# Altium integrated library Renesas Diode.IntLib: 1609 symbols (part 30 of 31)
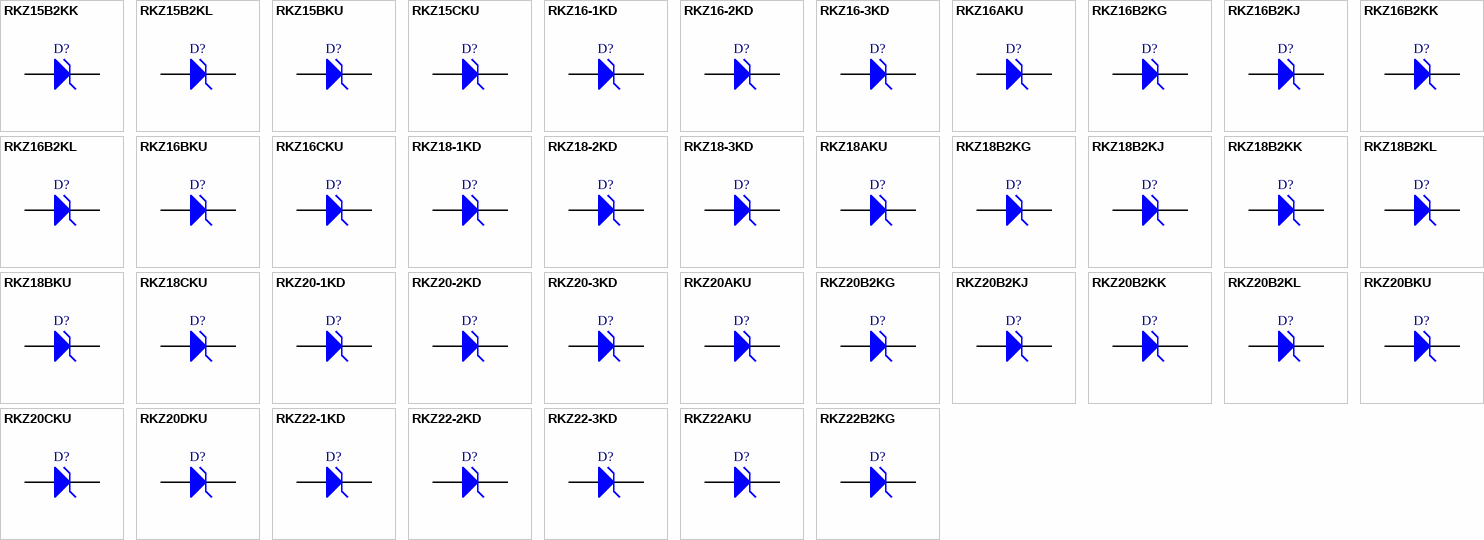
[diagram p74: symbols RKZ15B2KK to RKZ22B2KG]

## RKZ16B2KJ
designator D?
Silicon Planar Zener Diode for Surge Absorption and Stabilizer; Published: 12-Feb-2010; DatasheetVersion: Rev.1.00, Sep-2007; PackageVersion: Oct-2006; PackageReference: PWSF0002ZA-A; Publisher: Altium Limited; PackageDescription: 2-Pin Plastic Small Outline Diode, Flat Leads, Body 0.8 x 1.2 mm (UFP); Code_JEITA: SC-79; ComponentLink1Description: Manufacturer Link; ComponentLink1URL: http://sg.renesas.com/fmwk.jsp?cnt=diode_landing.jsp&fp=/products/discrete/diodes/; ComponentLink2Description: Datasheet; ComponentLink2URL: http://documentation.renesas.com/eng/products/diode/rej03g1588_rkz_kjds.pdf; ComponentLink3Description: Packaging Specification; ComponentLink3URL: http://sg.renesas.com/media/products/common_info/package/pdf/diode/code/pwsf0002za_a.pdf
footprint PWSF0002ZA-A (SOD, 2-Flat Leads, Body 0.8x1.2x0.7mm, Renesas Recommended)
signal-integrity model RKZ16B2KJ
pins: 1 K, 2 A

## RKZ16B2KK
designator D?
Silicon Planar Zener Diode for Surge Absorption and Stabilizer; Published: 12-Feb-2010; DatasheetVersion: Rev.1.00, Mar-2007; PackageVersion: Oct-2006; PackageReference: PUSF0002ZB-A; Publisher: Altium Limited; PackageDescription: 2-Pin Plastic Small Outline Diode, Flat Leads, Body 0.6 x 1.0 mm (SFP); ComponentLink1Description: Manufacturer Link; ComponentLink1URL: http://sg.renesas.com/fmwk.jsp?cnt=diode_landing.jsp&fp=/products/discrete/diodes/; ComponentLink2Description: Datasheet; ComponentLink2URL: http://documentation.renesas.com/eng/products/diode/rej03g1518_rkz_kkds.pdf; ComponentLink3Description: Packaging Specification; ComponentLink3URL: http://sg.renesas.com/media/products/common_info/package/pdf/diode/code/pusf0002zb_a.pdf
footprint PUSF0002ZB-A (SOD, 2-Flat Leads, Body 0.6x1.0x0.55mm, Renesas Recommended)
signal-integrity model RKZ16B2KK
pins: 1 K, 2 A

## RKZ16B2KL
designator D?
Silicon Planar Zener Diode for Surge Absorption and Stabilizer; Published: 12-Feb-2010; DatasheetVersion: Rev.1.00, May-2007; PackageVersion: Oct-2006; PackageReference: PXSF0002ZA-A; Publisher: Altium Limited; PackageDescription: 2-Pin Plastic Small Outline Diode, Flat Leads, Body 0.6 x 0.8 mm (EFP); ComponentLink1Description: Manufacturer Link; ComponentLink1URL: http://sg.renesas.com/fmwk.jsp?cnt=diode_landing.jsp&fp=/products/discrete/diodes/; ComponentLink2Description: Datasheet; ComponentLink2URL: http://documentation.renesas.com/eng/products/diode/rej03g1519_rkz_klds.pdf; ComponentLink3Description: Packaging Specification; ComponentLink3URL: http://sg.renesas.com/media/products/common_info/package/pdf/diode/code/pxsf0002za_a.pdf
footprint PXSF0002ZA-A (SOD, 2-Flat Leads, Body 0.6x0.8x0.5mm, Renesas Recommended)
signal-integrity model RKZ16B2KL
pins: 1 K, 2 A

## RKZ16BKU
designator D?
Silicon Planar Zener Diode for Stabilized Power Supply; Published: 12-Feb-2010; DatasheetVersion: Rev.1.00, Jul-2009; PackageVersion: Jul-2009; PackageReference: PUSF0002ZD-A; Publisher: Altium Limited; PackageDescription: 2-Pin Plastic Small Outline Diode, Flat Leads, Body 1.3 x 1.9 mm (TURP-FM); ComponentLink1Description: Manufacturer Link; ComponentLink1URL: http://sg.renesas.com/fmwk.jsp?cnt=diode_landing.jsp&fp=/products/discrete/diodes/; ComponentLink2Description: Datasheet; ComponentLink2URL: http://documentation.renesas.com/eng/products/diode/rej03g1771_rkz_kuds.pdf; ComponentLink3Description: Packaging Specification; ComponentLink3URL: http://sg.renesas.com/media/products/common_info/package/pdf/diode/code/pusf0002zd_a.pdf
footprint PUSF0002ZD-A (SOD, 2-Flat Leads, Body 1.3x1.9x0.65mm, Renesas Recommended)
signal-integrity model RKZ16BKU
pins: 1 K, 2 A

## RKZ16CKU
designator D?
Silicon Planar Zener Diode for Stabilized Power Supply; Published: 12-Feb-2010; DatasheetVersion: Rev.1.00, Jul-2009; PackageVersion: Jul-2009; PackageReference: PUSF0002ZD-A; Publisher: Altium Limited; PackageDescription: 2-Pin Plastic Small Outline Diode, Flat Leads, Body 1.3 x 1.9 mm (TURP-FM); ComponentLink1Description: Manufacturer Link; ComponentLink1URL: http://sg.renesas.com/fmwk.jsp?cnt=diode_landing.jsp&fp=/products/discrete/diodes/; ComponentLink2Description: Datasheet; ComponentLink2URL: http://documentation.renesas.com/eng/products/diode/rej03g1771_rkz_kuds.pdf; ComponentLink3Description: Packaging Specification; ComponentLink3URL: http://sg.renesas.com/media/products/common_info/package/pdf/diode/code/pusf0002zd_a.pdf
footprint PUSF0002ZD-A (SOD, 2-Flat Leads, Body 1.3x1.9x0.65mm, Renesas Recommended)
signal-integrity model RKZ16CKU
pins: 1 K, 2 A

## RKZ18-1KD
designator D?
Silicon Planar Zener Diode for Stabilized Power Supply; Published: 12-Feb-2010; DatasheetVersion: Rev.2.00, May-2008; PackageVersion: Aug-2005; PackageReference: GLZZ0002ZA-A; Publisher: Altium Limited; PackageDescription: Metal Electrode Face (MELF) Diode; Body 3.5 x 1.35 mm (LxDia); ComponentLink1Description: Manufacturer Link; ComponentLink1URL: http://sg.renesas.com/fmwk.jsp?cnt=diode_landing.jsp&fp=/products/discrete/diodes/; ComponentLink2Description: Datasheet; ComponentLink2URL: http://documentation.renesas.com/eng/products/diode/rej03g1264_rkz_kd.pdf; ComponentLink3Description: Packaging Specification; ComponentLink3URL: http://sg.renesas.com/media/products/common_info/package/pdf/diode/code/glzz0002za_a.pdf
footprint GLZZ0002ZA-A (Metal Electrode Face (MELF) Diode; Body 3.5 x 1.35 mm (LxDia))
signal-integrity model RKZ18-1KD
pins: 1 K, 2 A

## RKZ18-2KD
designator D?
Silicon Planar Zener Diode for Stabilized Power Supply; Published: 12-Feb-2010; DatasheetVersion: Rev.2.00, May-2008; PackageVersion: Aug-2005; PackageReference: GLZZ0002ZA-A; Publisher: Altium Limited; PackageDescription: Metal Electrode Face (MELF) Diode; Body 3.5 x 1.35 mm (LxDia); ComponentLink1Description: Manufacturer Link; ComponentLink1URL: http://sg.renesas.com/fmwk.jsp?cnt=diode_landing.jsp&fp=/products/discrete/diodes/; ComponentLink2Description: Datasheet; ComponentLink2URL: http://documentation.renesas.com/eng/products/diode/rej03g1264_rkz_kd.pdf; ComponentLink3Description: Packaging Specification; ComponentLink3URL: http://sg.renesas.com/media/products/common_info/package/pdf/diode/code/glzz0002za_a.pdf
footprint GLZZ0002ZA-A (Metal Electrode Face (MELF) Diode; Body 3.5 x 1.35 mm (LxDia))
signal-integrity model RKZ18-2KD
pins: 1 K, 2 A

## RKZ18-3KD
designator D?
Silicon Planar Zener Diode for Stabilized Power Supply; Published: 12-Feb-2010; DatasheetVersion: Rev.2.00, May-2008; PackageVersion: Aug-2005; PackageReference: GLZZ0002ZA-A; Publisher: Altium Limited; PackageDescription: Metal Electrode Face (MELF) Diode; Body 3.5 x 1.35 mm (LxDia); ComponentLink1Description: Manufacturer Link; ComponentLink1URL: http://sg.renesas.com/fmwk.jsp?cnt=diode_landing.jsp&fp=/products/discrete/diodes/; ComponentLink2Description: Datasheet; ComponentLink2URL: http://documentation.renesas.com/eng/products/diode/rej03g1264_rkz_kd.pdf; ComponentLink3Description: Packaging Specification; ComponentLink3URL: http://sg.renesas.com/media/products/common_info/package/pdf/diode/code/glzz0002za_a.pdf
footprint GLZZ0002ZA-A (Metal Electrode Face (MELF) Diode; Body 3.5 x 1.35 mm (LxDia))
signal-integrity model RKZ18-3KD
pins: 1 K, 2 A

## RKZ18AKU
designator D?
Silicon Planar Zener Diode for Stabilized Power Supply; Published: 12-Feb-2010; DatasheetVersion: Rev.1.00, Jul-2009; PackageVersion: Jul-2009; PackageReference: PUSF0002ZD-A; Publisher: Altium Limited; PackageDescription: 2-Pin Plastic Small Outline Diode, Flat Leads, Body 1.3 x 1.9 mm (TURP-FM); ComponentLink1Description: Manufacturer Link; ComponentLink1URL: http://sg.renesas.com/fmwk.jsp?cnt=diode_landing.jsp&fp=/products/discrete/diodes/; ComponentLink2Description: Datasheet; ComponentLink2URL: http://documentation.renesas.com/eng/products/diode/rej03g1771_rkz_kuds.pdf; ComponentLink3Description: Packaging Specification; ComponentLink3URL: http://sg.renesas.com/media/products/common_info/package/pdf/diode/code/pusf0002zd_a.pdf
footprint PUSF0002ZD-A (SOD, 2-Flat Leads, Body 1.3x1.9x0.65mm, Renesas Recommended)
signal-integrity model RKZ18AKU
pins: 1 K, 2 A

## RKZ18B2KG
designator D?
Silicon Planar Zener Diode for Surge Absorption and Stabilizer; Published: 12-Feb-2010; DatasheetVersion: Rev.3.00, Feb-2009; PackageVersion: Sep-2005; PackageReference: PTSP0002ZA-A; Publisher: Altium Limited; PackageDescription: 2-Pin SC-76 Package, 1.7 x 1.3 mm Body; Code_JEITA: SC-76A; ComponentLink1Description: Manufacturer Link; ComponentLink1URL: http://sg.renesas.com/fmwk.jsp?cnt=diode_landing.jsp&fp=/products/discrete/diodes/; ComponentLink2Description: Datasheet; ComponentLink2URL: http://documentation.renesas.com/eng/products/diode/rej03g1512_rkz_kg.pdf; ComponentLink3Description: Packaging Specification; ComponentLink3URL: http://sg.renesas.com/media/products/common_info/package/pdf/diode/code/ptsp0002za_a.pdf
footprint PTSP0002ZA-A (SC-76; 2 Leads; Body 1.7x1.3mm, Renesas Recommended)
signal-integrity model RKZ18B2KG
pins: 1 K, 2 A

## RKZ18B2KJ
designator D?
Silicon Planar Zener Diode for Surge Absorption and Stabilizer; Published: 12-Feb-2010; DatasheetVersion: Rev.1.00, Sep-2007; PackageVersion: Oct-2006; PackageReference: PWSF0002ZA-A; Publisher: Altium Limited; PackageDescription: 2-Pin Plastic Small Outline Diode, Flat Leads, Body 0.8 x 1.2 mm (UFP); Code_JEITA: SC-79; ComponentLink1Description: Manufacturer Link; ComponentLink1URL: http://sg.renesas.com/fmwk.jsp?cnt=diode_landing.jsp&fp=/products/discrete/diodes/; ComponentLink2Description: Datasheet; ComponentLink2URL: http://documentation.renesas.com/eng/products/diode/rej03g1588_rkz_kjds.pdf; ComponentLink3Description: Packaging Specification; ComponentLink3URL: http://sg.renesas.com/media/products/common_info/package/pdf/diode/code/pwsf0002za_a.pdf
footprint PWSF0002ZA-A (SOD, 2-Flat Leads, Body 0.8x1.2x0.7mm, Renesas Recommended)
signal-integrity model RKZ18B2KJ
pins: 1 K, 2 A

## RKZ18B2KK
designator D?
Silicon Planar Zener Diode for Surge Absorption and Stabilizer; Published: 12-Feb-2010; DatasheetVersion: Rev.1.00, Mar-2007; PackageVersion: Oct-2006; PackageReference: PUSF0002ZB-A; Publisher: Altium Limited; PackageDescription: 2-Pin Plastic Small Outline Diode, Flat Leads, Body 0.6 x 1.0 mm (SFP); ComponentLink1Description: Manufacturer Link; ComponentLink1URL: http://sg.renesas.com/fmwk.jsp?cnt=diode_landing.jsp&fp=/products/discrete/diodes/; ComponentLink2Description: Datasheet; ComponentLink2URL: http://documentation.renesas.com/eng/products/diode/rej03g1518_rkz_kkds.pdf; ComponentLink3Description: Packaging Specification; ComponentLink3URL: http://sg.renesas.com/media/products/common_info/package/pdf/diode/code/pusf0002zb_a.pdf
footprint PUSF0002ZB-A (SOD, 2-Flat Leads, Body 0.6x1.0x0.55mm, Renesas Recommended)
signal-integrity model RKZ18B2KK
pins: 1 K, 2 A

## RKZ18B2KL
designator D?
Silicon Planar Zener Diode for Surge Absorption and Stabilizer; Published: 12-Feb-2010; DatasheetVersion: Rev.1.00, May-2007; PackageVersion: Oct-2006; PackageReference: PXSF0002ZA-A; Publisher: Altium Limited; PackageDescription: 2-Pin Plastic Small Outline Diode, Flat Leads, Body 0.6 x 0.8 mm (EFP); ComponentLink1Description: Manufacturer Link; ComponentLink1URL: http://sg.renesas.com/fmwk.jsp?cnt=diode_landing.jsp&fp=/products/discrete/diodes/; ComponentLink2Description: Datasheet; ComponentLink2URL: http://documentation.renesas.com/eng/products/diode/rej03g1519_rkz_klds.pdf; ComponentLink3Description: Packaging Specification; ComponentLink3URL: http://sg.renesas.com/media/products/common_info/package/pdf/diode/code/pxsf0002za_a.pdf
footprint PXSF0002ZA-A (SOD, 2-Flat Leads, Body 0.6x0.8x0.5mm, Renesas Recommended)
signal-integrity model RKZ18B2KL
pins: 1 K, 2 A

## RKZ18BKU
designator D?
Silicon Planar Zener Diode for Stabilized Power Supply; Published: 12-Feb-2010; DatasheetVersion: Rev.1.00, Jul-2009; PackageVersion: Jul-2009; PackageReference: PUSF0002ZD-A; Publisher: Altium Limited; PackageDescription: 2-Pin Plastic Small Outline Diode, Flat Leads, Body 1.3 x 1.9 mm (TURP-FM); ComponentLink1Description: Manufacturer Link; ComponentLink1URL: http://sg.renesas.com/fmwk.jsp?cnt=diode_landing.jsp&fp=/products/discrete/diodes/; ComponentLink2Description: Datasheet; ComponentLink2URL: http://documentation.renesas.com/eng/products/diode/rej03g1771_rkz_kuds.pdf; ComponentLink3Description: Packaging Specification; ComponentLink3URL: http://sg.renesas.com/media/products/common_info/package/pdf/diode/code/pusf0002zd_a.pdf
footprint PUSF0002ZD-A (SOD, 2-Flat Leads, Body 1.3x1.9x0.65mm, Renesas Recommended)
signal-integrity model RKZ18BKU
pins: 1 K, 2 A

## RKZ18CKU
designator D?
Silicon Planar Zener Diode for Stabilized Power Supply; Published: 12-Feb-2010; DatasheetVersion: Rev.1.00, Jul-2009; PackageVersion: Jul-2009; PackageReference: PUSF0002ZD-A; Publisher: Altium Limited; PackageDescription: 2-Pin Plastic Small Outline Diode, Flat Leads, Body 1.3 x 1.9 mm (TURP-FM); ComponentLink1Description: Manufacturer Link; ComponentLink1URL: http://sg.renesas.com/fmwk.jsp?cnt=diode_landing.jsp&fp=/products/discrete/diodes/; ComponentLink2Description: Datasheet; ComponentLink2URL: http://documentation.renesas.com/eng/products/diode/rej03g1771_rkz_kuds.pdf; ComponentLink3Description: Packaging Specification; ComponentLink3URL: http://sg.renesas.com/media/products/common_info/package/pdf/diode/code/pusf0002zd_a.pdf
footprint PUSF0002ZD-A (SOD, 2-Flat Leads, Body 1.3x1.9x0.65mm, Renesas Recommended)
signal-integrity model RKZ18CKU
pins: 1 K, 2 A

## RKZ20-1KD
designator D?
Silicon Planar Zener Diode for Stabilized Power Supply; Published: 12-Feb-2010; DatasheetVersion: Rev.2.00, May-2008; PackageVersion: Aug-2005; PackageReference: GLZZ0002ZA-A; Publisher: Altium Limited; PackageDescription: Metal Electrode Face (MELF) Diode; Body 3.5 x 1.35 mm (LxDia); ComponentLink1Description: Manufacturer Link; ComponentLink1URL: http://sg.renesas.com/fmwk.jsp?cnt=diode_landing.jsp&fp=/products/discrete/diodes/; ComponentLink2Description: Datasheet; ComponentLink2URL: http://documentation.renesas.com/eng/products/diode/rej03g1264_rkz_kd.pdf; ComponentLink3Description: Packaging Specification; ComponentLink3URL: http://sg.renesas.com/media/products/common_info/package/pdf/diode/code/glzz0002za_a.pdf
footprint GLZZ0002ZA-A (Metal Electrode Face (MELF) Diode; Body 3.5 x 1.35 mm (LxDia))
signal-integrity model RKZ20-1KD
pins: 1 K, 2 A

## RKZ20-2KD
designator D?
Silicon Planar Zener Diode for Stabilized Power Supply; Published: 12-Feb-2010; DatasheetVersion: Rev.2.00, May-2008; PackageVersion: Aug-2005; PackageReference: GLZZ0002ZA-A; Publisher: Altium Limited; PackageDescription: Metal Electrode Face (MELF) Diode; Body 3.5 x 1.35 mm (LxDia); ComponentLink1Description: Manufacturer Link; ComponentLink1URL: http://sg.renesas.com/fmwk.jsp?cnt=diode_landing.jsp&fp=/products/discrete/diodes/; ComponentLink2Description: Datasheet; ComponentLink2URL: http://documentation.renesas.com/eng/products/diode/rej03g1264_rkz_kd.pdf; ComponentLink3Description: Packaging Specification; ComponentLink3URL: http://sg.renesas.com/media/products/common_info/package/pdf/diode/code/glzz0002za_a.pdf
footprint GLZZ0002ZA-A (Metal Electrode Face (MELF) Diode; Body 3.5 x 1.35 mm (LxDia))
signal-integrity model RKZ20-2KD
pins: 1 K, 2 A

## RKZ20-3KD
designator D?
Silicon Planar Zener Diode for Stabilized Power Supply; Published: 12-Feb-2010; DatasheetVersion: Rev.2.00, May-2008; PackageVersion: Aug-2005; PackageReference: GLZZ0002ZA-A; Publisher: Altium Limited; PackageDescription: Metal Electrode Face (MELF) Diode; Body 3.5 x 1.35 mm (LxDia); ComponentLink1Description: Manufacturer Link; ComponentLink1URL: http://sg.renesas.com/fmwk.jsp?cnt=diode_landing.jsp&fp=/products/discrete/diodes/; ComponentLink2Description: Datasheet; ComponentLink2URL: http://documentation.renesas.com/eng/products/diode/rej03g1264_rkz_kd.pdf; ComponentLink3Description: Packaging Specification; ComponentLink3URL: http://sg.renesas.com/media/products/common_info/package/pdf/diode/code/glzz0002za_a.pdf
footprint GLZZ0002ZA-A (Metal Electrode Face (MELF) Diode; Body 3.5 x 1.35 mm (LxDia))
signal-integrity model RKZ20-3KD
pins: 1 K, 2 A

## RKZ20AKU
designator D?
Silicon Planar Zener Diode for Stabilized Power Supply; Published: 12-Feb-2010; DatasheetVersion: Rev.1.00, Jul-2009; PackageVersion: Jul-2009; PackageReference: PUSF0002ZD-A; Publisher: Altium Limited; PackageDescription: 2-Pin Plastic Small Outline Diode, Flat Leads, Body 1.3 x 1.9 mm (TURP-FM); ComponentLink1Description: Manufacturer Link; ComponentLink1URL: http://sg.renesas.com/fmwk.jsp?cnt=diode_landing.jsp&fp=/products/discrete/diodes/; ComponentLink2Description: Datasheet; ComponentLink2URL: http://documentation.renesas.com/eng/products/diode/rej03g1771_rkz_kuds.pdf; ComponentLink3Description: Packaging Specification; ComponentLink3URL: http://sg.renesas.com/media/products/common_info/package/pdf/diode/code/pusf0002zd_a.pdf
footprint PUSF0002ZD-A (SOD, 2-Flat Leads, Body 1.3x1.9x0.65mm, Renesas Recommended)
signal-integrity model RKZ20AKU
pins: 1 K, 2 A

## RKZ20B2KG
designator D?
Silicon Planar Zener Diode for Surge Absorption and Stabilizer; Published: 12-Feb-2010; DatasheetVersion: Rev.3.00, Feb-2009; PackageVersion: Sep-2005; PackageReference: PTSP0002ZA-A; Publisher: Altium Limited; PackageDescription: 2-Pin SC-76 Package, 1.7 x 1.3 mm Body; Code_JEITA: SC-76A; ComponentLink1Description: Manufacturer Link; ComponentLink1URL: http://sg.renesas.com/fmwk.jsp?cnt=diode_landing.jsp&fp=/products/discrete/diodes/; ComponentLink2Description: Datasheet; ComponentLink2URL: http://documentation.renesas.com/eng/products/diode/rej03g1512_rkz_kg.pdf; ComponentLink3Description: Packaging Specification; ComponentLink3URL: http://sg.renesas.com/media/products/common_info/package/pdf/diode/code/ptsp0002za_a.pdf
footprint PTSP0002ZA-A (SC-76; 2 Leads; Body 1.7x1.3mm, Renesas Recommended)
signal-integrity model RKZ20B2KG
pins: 1 K, 2 A

## RKZ20B2KJ
designator D?
Silicon Planar Zener Diode for Surge Absorption and Stabilizer; Published: 12-Feb-2010; DatasheetVersion: Rev.1.00, Sep-2007; PackageVersion: Oct-2006; PackageReference: PWSF0002ZA-A; Publisher: Altium Limited; PackageDescription: 2-Pin Plastic Small Outline Diode, Flat Leads, Body 0.8 x 1.2 mm (UFP); Code_JEITA: SC-79; ComponentLink1Description: Manufacturer Link; ComponentLink1URL: http://sg.renesas.com/fmwk.jsp?cnt=diode_landing.jsp&fp=/products/discrete/diodes/; ComponentLink2Description: Datasheet; ComponentLink2URL: http://documentation.renesas.com/eng/products/diode/rej03g1588_rkz_kjds.pdf; ComponentLink3Description: Packaging Specification; ComponentLink3URL: http://sg.renesas.com/media/products/common_info/package/pdf/diode/code/pwsf0002za_a.pdf
footprint PWSF0002ZA-A (SOD, 2-Flat Leads, Body 0.8x1.2x0.7mm, Renesas Recommended)
signal-integrity model RKZ20B2KJ
pins: 1 K, 2 A

## RKZ20B2KK
designator D?
Silicon Planar Zener Diode for Surge Absorption and Stabilizer; Published: 12-Feb-2010; DatasheetVersion: Rev.1.00, Mar-2007; PackageVersion: Oct-2006; PackageReference: PUSF0002ZB-A; Publisher: Altium Limited; PackageDescription: 2-Pin Plastic Small Outline Diode, Flat Leads, Body 0.6 x 1.0 mm (SFP); ComponentLink1Description: Manufacturer Link; ComponentLink1URL: http://sg.renesas.com/fmwk.jsp?cnt=diode_landing.jsp&fp=/products/discrete/diodes/; ComponentLink2Description: Datasheet; ComponentLink2URL: http://documentation.renesas.com/eng/products/diode/rej03g1518_rkz_kkds.pdf; ComponentLink3Description: Packaging Specification; ComponentLink3URL: http://sg.renesas.com/media/products/common_info/package/pdf/diode/code/pusf0002zb_a.pdf
footprint PUSF0002ZB-A (SOD, 2-Flat Leads, Body 0.6x1.0x0.55mm, Renesas Recommended)
signal-integrity model RKZ20B2KK
pins: 1 K, 2 A

## RKZ20B2KL
designator D?
Silicon Planar Zener Diode for Surge Absorption and Stabilizer; Published: 12-Feb-2010; DatasheetVersion: Rev.1.00, May-2007; PackageVersion: Oct-2006; PackageReference: PXSF0002ZA-A; Publisher: Altium Limited; PackageDescription: 2-Pin Plastic Small Outline Diode, Flat Leads, Body 0.6 x 0.8 mm (EFP); ComponentLink1Description: Manufacturer Link; ComponentLink1URL: http://sg.renesas.com/fmwk.jsp?cnt=diode_landing.jsp&fp=/products/discrete/diodes/; ComponentLink2Description: Datasheet; ComponentLink2URL: http://documentation.renesas.com/eng/products/diode/rej03g1519_rkz_klds.pdf; ComponentLink3Description: Packaging Specification; ComponentLink3URL: http://sg.renesas.com/media/products/common_info/package/pdf/diode/code/pxsf0002za_a.pdf
footprint PXSF0002ZA-A (SOD, 2-Flat Leads, Body 0.6x0.8x0.5mm, Renesas Recommended)
signal-integrity model RKZ20B2KL
pins: 1 K, 2 A

## RKZ20BKU
designator D?
Silicon Planar Zener Diode for Stabilized Power Supply; Published: 12-Feb-2010; DatasheetVersion: Rev.1.00, Jul-2009; PackageVersion: Jul-2009; PackageReference: PUSF0002ZD-A; Publisher: Altium Limited; PackageDescription: 2-Pin Plastic Small Outline Diode, Flat Leads, Body 1.3 x 1.9 mm (TURP-FM); ComponentLink1Description: Manufacturer Link; ComponentLink1URL: http://sg.renesas.com/fmwk.jsp?cnt=diode_landing.jsp&fp=/products/discrete/diodes/; ComponentLink2Description: Datasheet; ComponentLink2URL: http://documentation.renesas.com/eng/products/diode/rej03g1771_rkz_kuds.pdf; ComponentLink3Description: Packaging Specification; ComponentLink3URL: http://sg.renesas.com/media/products/common_info/package/pdf/diode/code/pusf0002zd_a.pdf
footprint PUSF0002ZD-A (SOD, 2-Flat Leads, Body 1.3x1.9x0.65mm, Renesas Recommended)
signal-integrity model RKZ20BKU
pins: 1 K, 2 A

## RKZ20CKU
designator D?
Silicon Planar Zener Diode for Stabilized Power Supply; Published: 12-Feb-2010; DatasheetVersion: Rev.1.00, Jul-2009; PackageVersion: Jul-2009; PackageReference: PUSF0002ZD-A; Publisher: Altium Limited; PackageDescription: 2-Pin Plastic Small Outline Diode, Flat Leads, Body 1.3 x 1.9 mm (TURP-FM); ComponentLink1Description: Manufacturer Link; ComponentLink1URL: http://sg.renesas.com/fmwk.jsp?cnt=diode_landing.jsp&fp=/products/discrete/diodes/; ComponentLink2Description: Datasheet; ComponentLink2URL: http://documentation.renesas.com/eng/products/diode/rej03g1771_rkz_kuds.pdf; ComponentLink3Description: Packaging Specification; ComponentLink3URL: http://sg.renesas.com/media/products/common_info/package/pdf/diode/code/pusf0002zd_a.pdf
footprint PUSF0002ZD-A (SOD, 2-Flat Leads, Body 1.3x1.9x0.65mm, Renesas Recommended)
signal-integrity model RKZ20CKU
pins: 1 K, 2 A

## RKZ20DKU
designator D?
Silicon Planar Zener Diode for Stabilized Power Supply; Published: 12-Feb-2010; DatasheetVersion: Rev.1.00, Jul-2009; PackageVersion: Jul-2009; PackageReference: PUSF0002ZD-A; Publisher: Altium Limited; PackageDescription: 2-Pin Plastic Small Outline Diode, Flat Leads, Body 1.3 x 1.9 mm (TURP-FM); ComponentLink1Description: Manufacturer Link; ComponentLink1URL: http://sg.renesas.com/fmwk.jsp?cnt=diode_landing.jsp&fp=/products/discrete/diodes/; ComponentLink2Description: Datasheet; ComponentLink2URL: http://documentation.renesas.com/eng/products/diode/rej03g1771_rkz_kuds.pdf; ComponentLink3Description: Packaging Specification; ComponentLink3URL: http://sg.renesas.com/media/products/common_info/package/pdf/diode/code/pusf0002zd_a.pdf
footprint PUSF0002ZD-A (SOD, 2-Flat Leads, Body 1.3x1.9x0.65mm, Renesas Recommended)
signal-integrity model RKZ20DKU
pins: 1 K, 2 A

## RKZ22-1KD
designator D?
Silicon Planar Zener Diode for Stabilized Power Supply; Published: 12-Feb-2010; DatasheetVersion: Rev.2.00, May-2008; PackageVersion: Aug-2005; PackageReference: GLZZ0002ZA-A; Publisher: Altium Limited; PackageDescription: Metal Electrode Face (MELF) Diode; Body 3.5 x 1.35 mm (LxDia); ComponentLink1Description: Manufacturer Link; ComponentLink1URL: http://sg.renesas.com/fmwk.jsp?cnt=diode_landing.jsp&fp=/products/discrete/diodes/; ComponentLink2Description: Datasheet; ComponentLink2URL: http://documentation.renesas.com/eng/products/diode/rej03g1264_rkz_kd.pdf; ComponentLink3Description: Packaging Specification; ComponentLink3URL: http://sg.renesas.com/media/products/common_info/package/pdf/diode/code/glzz0002za_a.pdf
footprint GLZZ0002ZA-A (Metal Electrode Face (MELF) Diode; Body 3.5 x 1.35 mm (LxDia))
signal-integrity model RKZ22-1KD
pins: 1 K, 2 A

## RKZ22-2KD
designator D?
Silicon Planar Zener Diode for Stabilized Power Supply; Published: 12-Feb-2010; DatasheetVersion: Rev.2.00, May-2008; PackageVersion: Aug-2005; PackageReference: GLZZ0002ZA-A; Publisher: Altium Limited; PackageDescription: Metal Electrode Face (MELF) Diode; Body 3.5 x 1.35 mm (LxDia); ComponentLink1Description: Manufacturer Link; ComponentLink1URL: http://sg.renesas.com/fmwk.jsp?cnt=diode_landing.jsp&fp=/products/discrete/diodes/; ComponentLink2Description: Datasheet; ComponentLink2URL: http://documentation.renesas.com/eng/products/diode/rej03g1264_rkz_kd.pdf; ComponentLink3Description: Packaging Specification; ComponentLink3URL: http://sg.renesas.com/media/products/common_info/package/pdf/diode/code/glzz0002za_a.pdf
footprint GLZZ0002ZA-A (Metal Electrode Face (MELF) Diode; Body 3.5 x 1.35 mm (LxDia))
signal-integrity model RKZ22-2KD
pins: 1 K, 2 A

## RKZ22-3KD
designator D?
Silicon Planar Zener Diode for Stabilized Power Supply; Published: 12-Feb-2010; DatasheetVersion: Rev.2.00, May-2008; PackageVersion: Aug-2005; PackageReference: GLZZ0002ZA-A; Publisher: Altium Limited; PackageDescription: Metal Electrode Face (MELF) Diode; Body 3.5 x 1.35 mm (LxDia); ComponentLink1Description: Manufacturer Link; ComponentLink1URL: http://sg.renesas.com/fmwk.jsp?cnt=diode_landing.jsp&fp=/products/discrete/diodes/; ComponentLink2Description: Datasheet; ComponentLink2URL: http://documentation.renesas.com/eng/products/diode/rej03g1264_rkz_kd.pdf; ComponentLink3Description: Packaging Specification; ComponentLink3URL: http://sg.renesas.com/media/products/common_info/package/pdf/diode/code/glzz0002za_a.pdf
footprint GLZZ0002ZA-A (Metal Electrode Face (MELF) Diode; Body 3.5 x 1.35 mm (LxDia))
signal-integrity model RKZ22-3KD
pins: 1 K, 2 A

## RKZ22AKU
designator D?
Silicon Planar Zener Diode for Stabilized Power Supply; Published: 12-Feb-2010; DatasheetVersion: Rev.1.00, Jul-2009; PackageVersion: Jul-2009; PackageReference: PUSF0002ZD-A; Publisher: Altium Limited; PackageDescription: 2-Pin Plastic Small Outline Diode, Flat Leads, Body 1.3 x 1.9 mm (TURP-FM); ComponentLink1Description: Manufacturer Link; ComponentLink1URL: http://sg.renesas.com/fmwk.jsp?cnt=diode_landing.jsp&fp=/products/discrete/diodes/; ComponentLink2Description: Datasheet; ComponentLink2URL: http://documentation.renesas.com/eng/products/diode/rej03g1771_rkz_kuds.pdf; ComponentLink3Description: Packaging Specification; ComponentLink3URL: http://sg.renesas.com/media/products/common_info/package/pdf/diode/code/pusf0002zd_a.pdf
footprint PUSF0002ZD-A (SOD, 2-Flat Leads, Body 1.3x1.9x0.65mm, Renesas Recommended)
signal-integrity model RKZ22AKU
pins: 1 K, 2 A

## RKZ22B2KG
designator D?
Silicon Planar Zener Diode for Surge Absorption and Stabilizer; Published: 12-Feb-2010; DatasheetVersion: Rev.3.00, Feb-2009; PackageVersion: Sep-2005; PackageReference: PTSP0002ZA-A; Publisher: Altium Limited; PackageDescription: 2-Pin SC-76 Package, 1.7 x 1.3 mm Body; Code_JEITA: SC-76A; ComponentLink1Description: Manufacturer Link; ComponentLink1URL: http://sg.renesas.com/fmwk.jsp?cnt=diode_landing.jsp&fp=/products/discrete/diodes/; ComponentLink2Description: Datasheet; ComponentLink2URL: http://documentation.renesas.com/eng/products/diode/rej03g1512_rkz_kg.pdf; ComponentLink3Description: Packaging Specification; ComponentLink3URL: http://sg.renesas.com/media/products/common_info/package/pdf/diode/code/ptsp0002za_a.pdf
footprint PTSP0002ZA-A (SC-76; 2 Leads; Body 1.7x1.3mm, Renesas Recommended)
signal-integrity model RKZ22B2KG
pins: 1 K, 2 A

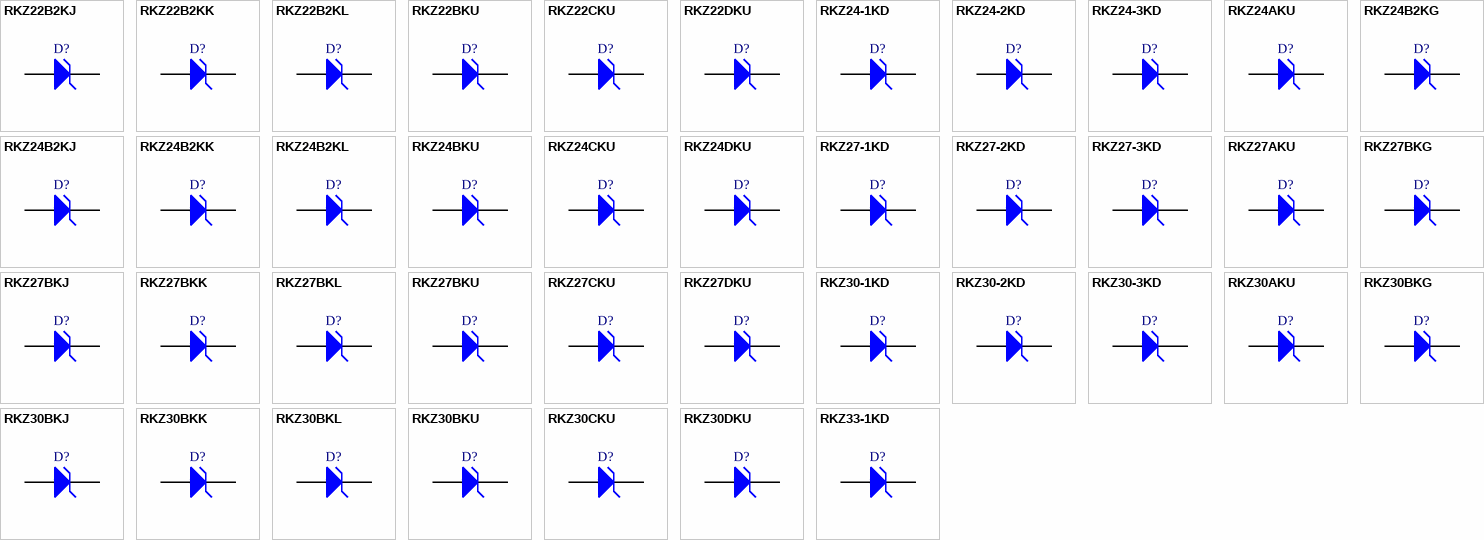
[diagram p44: symbols RKZ22B2KJ to RKZ33-1KD]

## RKZ22B2KJ
designator D?
Silicon Planar Zener Diode for Surge Absorption and Stabilizer; Published: 12-Feb-2010; DatasheetVersion: Rev.1.00, Sep-2007; PackageVersion: Oct-2006; PackageReference: PWSF0002ZA-A; Publisher: Altium Limited; PackageDescription: 2-Pin Plastic Small Outline Diode, Flat Leads, Body 0.8 x 1.2 mm (UFP); Code_JEITA: SC-79; ComponentLink1Description: Manufacturer Link; ComponentLink1URL: http://sg.renesas.com/fmwk.jsp?cnt=diode_landing.jsp&fp=/products/discrete/diodes/; ComponentLink2Description: Datasheet; ComponentLink2URL: http://documentation.renesas.com/eng/products/diode/rej03g1588_rkz_kjds.pdf; ComponentLink3Description: Packaging Specification; ComponentLink3URL: http://sg.renesas.com/media/products/common_info/package/pdf/diode/code/pwsf0002za_a.pdf
footprint PWSF0002ZA-A (SOD, 2-Flat Leads, Body 0.8x1.2x0.7mm, Renesas Recommended)
signal-integrity model RKZ22B2KJ
pins: 1 K, 2 A

## RKZ22B2KK
designator D?
Silicon Planar Zener Diode for Surge Absorption and Stabilizer; Published: 12-Feb-2010; DatasheetVersion: Rev.1.00, Mar-2007; PackageVersion: Oct-2006; PackageReference: PUSF0002ZB-A; Publisher: Altium Limited; PackageDescription: 2-Pin Plastic Small Outline Diode, Flat Leads, Body 0.6 x 1.0 mm (SFP); ComponentLink1Description: Manufacturer Link; ComponentLink1URL: http://sg.renesas.com/fmwk.jsp?cnt=diode_landing.jsp&fp=/products/discrete/diodes/; ComponentLink2Description: Datasheet; ComponentLink2URL: http://documentation.renesas.com/eng/products/diode/rej03g1518_rkz_kkds.pdf; ComponentLink3Description: Packaging Specification; ComponentLink3URL: http://sg.renesas.com/media/products/common_info/package/pdf/diode/code/pusf0002zb_a.pdf
footprint PUSF0002ZB-A (SOD, 2-Flat Leads, Body 0.6x1.0x0.55mm, Renesas Recommended)
signal-integrity model RKZ22B2KK
pins: 1 K, 2 A

## RKZ22B2KL
designator D?
Silicon Planar Zener Diode for Surge Absorption and Stabilizer; Published: 12-Feb-2010; DatasheetVersion: Rev.1.00, May-2007; PackageVersion: Oct-2006; PackageReference: PXSF0002ZA-A; Publisher: Altium Limited; PackageDescription: 2-Pin Plastic Small Outline Diode, Flat Leads, Body 0.6 x 0.8 mm (EFP); ComponentLink1Description: Manufacturer Link; ComponentLink1URL: http://sg.renesas.com/fmwk.jsp?cnt=diode_landing.jsp&fp=/products/discrete/diodes/; ComponentLink2Description: Datasheet; ComponentLink2URL: http://documentation.renesas.com/eng/products/diode/rej03g1519_rkz_klds.pdf; ComponentLink3Description: Packaging Specification; ComponentLink3URL: http://sg.renesas.com/media/products/common_info/package/pdf/diode/code/pxsf0002za_a.pdf
footprint PXSF0002ZA-A (SOD, 2-Flat Leads, Body 0.6x0.8x0.5mm, Renesas Recommended)
signal-integrity model RKZ22B2KL
pins: 1 K, 2 A

## RKZ22BKU
designator D?
Silicon Planar Zener Diode for Stabilized Power Supply; Published: 12-Feb-2010; DatasheetVersion: Rev.1.00, Jul-2009; PackageVersion: Jul-2009; PackageReference: PUSF0002ZD-A; Publisher: Altium Limited; PackageDescription: 2-Pin Plastic Small Outline Diode, Flat Leads, Body 1.3 x 1.9 mm (TURP-FM); ComponentLink1Description: Manufacturer Link; ComponentLink1URL: http://sg.renesas.com/fmwk.jsp?cnt=diode_landing.jsp&fp=/products/discrete/diodes/; ComponentLink2Description: Datasheet; ComponentLink2URL: http://documentation.renesas.com/eng/products/diode/rej03g1771_rkz_kuds.pdf; ComponentLink3Description: Packaging Specification; ComponentLink3URL: http://sg.renesas.com/media/products/common_info/package/pdf/diode/code/pusf0002zd_a.pdf
footprint PUSF0002ZD-A (SOD, 2-Flat Leads, Body 1.3x1.9x0.65mm, Renesas Recommended)
signal-integrity model RKZ22BKU
pins: 1 K, 2 A

## RKZ22CKU
designator D?
Silicon Planar Zener Diode for Stabilized Power Supply; Published: 12-Feb-2010; DatasheetVersion: Rev.1.00, Jul-2009; PackageVersion: Jul-2009; PackageReference: PUSF0002ZD-A; Publisher: Altium Limited; PackageDescription: 2-Pin Plastic Small Outline Diode, Flat Leads, Body 1.3 x 1.9 mm (TURP-FM); ComponentLink1Description: Manufacturer Link; ComponentLink1URL: http://sg.renesas.com/fmwk.jsp?cnt=diode_landing.jsp&fp=/products/discrete/diodes/; ComponentLink2Description: Datasheet; ComponentLink2URL: http://documentation.renesas.com/eng/products/diode/rej03g1771_rkz_kuds.pdf; ComponentLink3Description: Packaging Specification; ComponentLink3URL: http://sg.renesas.com/media/products/common_info/package/pdf/diode/code/pusf0002zd_a.pdf
footprint PUSF0002ZD-A (SOD, 2-Flat Leads, Body 1.3x1.9x0.65mm, Renesas Recommended)
signal-integrity model RKZ22CKU
pins: 1 K, 2 A

## RKZ22DKU
designator D?
Silicon Planar Zener Diode for Stabilized Power Supply; Published: 12-Feb-2010; DatasheetVersion: Rev.1.00, Jul-2009; PackageVersion: Jul-2009; PackageReference: PUSF0002ZD-A; Publisher: Altium Limited; PackageDescription: 2-Pin Plastic Small Outline Diode, Flat Leads, Body 1.3 x 1.9 mm (TURP-FM); ComponentLink1Description: Manufacturer Link; ComponentLink1URL: http://sg.renesas.com/fmwk.jsp?cnt=diode_landing.jsp&fp=/products/discrete/diodes/; ComponentLink2Description: Datasheet; ComponentLink2URL: http://documentation.renesas.com/eng/products/diode/rej03g1771_rkz_kuds.pdf; ComponentLink3Description: Packaging Specification; ComponentLink3URL: http://sg.renesas.com/media/products/common_info/package/pdf/diode/code/pusf0002zd_a.pdf
footprint PUSF0002ZD-A (SOD, 2-Flat Leads, Body 1.3x1.9x0.65mm, Renesas Recommended)
signal-integrity model RKZ22DKU
pins: 1 K, 2 A

## RKZ24-1KD
designator D?
Silicon Planar Zener Diode for Stabilized Power Supply; Published: 12-Feb-2010; DatasheetVersion: Rev.2.00, May-2008; PackageVersion: Aug-2005; PackageReference: GLZZ0002ZA-A; Publisher: Altium Limited; PackageDescription: Metal Electrode Face (MELF) Diode; Body 3.5 x 1.35 mm (LxDia); ComponentLink1Description: Manufacturer Link; ComponentLink1URL: http://sg.renesas.com/fmwk.jsp?cnt=diode_landing.jsp&fp=/products/discrete/diodes/; ComponentLink2Description: Datasheet; ComponentLink2URL: http://documentation.renesas.com/eng/products/diode/rej03g1264_rkz_kd.pdf; ComponentLink3Description: Packaging Specification; ComponentLink3URL: http://sg.renesas.com/media/products/common_info/package/pdf/diode/code/glzz0002za_a.pdf
footprint GLZZ0002ZA-A (Metal Electrode Face (MELF) Diode; Body 3.5 x 1.35 mm (LxDia))
signal-integrity model RKZ24-1KD
pins: 1 K, 2 A

## RKZ24-2KD
designator D?
Silicon Planar Zener Diode for Stabilized Power Supply; Published: 12-Feb-2010; DatasheetVersion: Rev.2.00, May-2008; PackageVersion: Aug-2005; PackageReference: GLZZ0002ZA-A; Publisher: Altium Limited; PackageDescription: Metal Electrode Face (MELF) Diode; Body 3.5 x 1.35 mm (LxDia); ComponentLink1Description: Manufacturer Link; ComponentLink1URL: http://sg.renesas.com/fmwk.jsp?cnt=diode_landing.jsp&fp=/products/discrete/diodes/; ComponentLink2Description: Datasheet; ComponentLink2URL: http://documentation.renesas.com/eng/products/diode/rej03g1264_rkz_kd.pdf; ComponentLink3Description: Packaging Specification; ComponentLink3URL: http://sg.renesas.com/media/products/common_info/package/pdf/diode/code/glzz0002za_a.pdf
footprint GLZZ0002ZA-A (Metal Electrode Face (MELF) Diode; Body 3.5 x 1.35 mm (LxDia))
signal-integrity model RKZ24-2KD
pins: 1 K, 2 A

## RKZ24-3KD
designator D?
Silicon Planar Zener Diode for Stabilized Power Supply; Published: 12-Feb-2010; DatasheetVersion: Rev.2.00, May-2008; PackageVersion: Aug-2005; PackageReference: GLZZ0002ZA-A; Publisher: Altium Limited; PackageDescription: Metal Electrode Face (MELF) Diode; Body 3.5 x 1.35 mm (LxDia); ComponentLink1Description: Manufacturer Link; ComponentLink1URL: http://sg.renesas.com/fmwk.jsp?cnt=diode_landing.jsp&fp=/products/discrete/diodes/; ComponentLink2Description: Datasheet; ComponentLink2URL: http://documentation.renesas.com/eng/products/diode/rej03g1264_rkz_kd.pdf; ComponentLink3Description: Packaging Specification; ComponentLink3URL: http://sg.renesas.com/media/products/common_info/package/pdf/diode/code/glzz0002za_a.pdf
footprint GLZZ0002ZA-A (Metal Electrode Face (MELF) Diode; Body 3.5 x 1.35 mm (LxDia))
signal-integrity model RKZ24-3KD
pins: 1 K, 2 A

## RKZ24AKU
designator D?
Silicon Planar Zener Diode for Stabilized Power Supply; Published: 12-Feb-2010; DatasheetVersion: Rev.1.00, Jul-2009; PackageVersion: Jul-2009; PackageReference: PUSF0002ZD-A; Publisher: Altium Limited; PackageDescription: 2-Pin Plastic Small Outline Diode, Flat Leads, Body 1.3 x 1.9 mm (TURP-FM); ComponentLink1Description: Manufacturer Link; ComponentLink1URL: http://sg.renesas.com/fmwk.jsp?cnt=diode_landing.jsp&fp=/products/discrete/diodes/; ComponentLink2Description: Datasheet; ComponentLink2URL: http://documentation.renesas.com/eng/products/diode/rej03g1771_rkz_kuds.pdf; ComponentLink3Description: Packaging Specification; ComponentLink3URL: http://sg.renesas.com/media/products/common_info/package/pdf/diode/code/pusf0002zd_a.pdf
footprint PUSF0002ZD-A (SOD, 2-Flat Leads, Body 1.3x1.9x0.65mm, Renesas Recommended)
signal-integrity model RKZ24AKU
pins: 1 K, 2 A

## RKZ24B2KG
designator D?
Silicon Planar Zener Diode for Surge Absorption and Stabilizer; Published: 12-Feb-2010; DatasheetVersion: Rev.3.00, Feb-2009; PackageVersion: Sep-2005; PackageReference: PTSP0002ZA-A; Publisher: Altium Limited; PackageDescription: 2-Pin SC-76 Package, 1.7 x 1.3 mm Body; Code_JEITA: SC-76A; ComponentLink1Description: Manufacturer Link; ComponentLink1URL: http://sg.renesas.com/fmwk.jsp?cnt=diode_landing.jsp&fp=/products/discrete/diodes/; ComponentLink2Description: Datasheet; ComponentLink2URL: http://documentation.renesas.com/eng/products/diode/rej03g1512_rkz_kg.pdf; ComponentLink3Description: Packaging Specification; ComponentLink3URL: http://sg.renesas.com/media/products/common_info/package/pdf/diode/code/ptsp0002za_a.pdf
footprint PTSP0002ZA-A (SC-76; 2 Leads; Body 1.7x1.3mm, Renesas Recommended)
signal-integrity model RKZ24B2KG
pins: 1 K, 2 A

## RKZ24B2KJ
designator D?
Silicon Planar Zener Diode for Surge Absorption and Stabilizer; Published: 12-Feb-2010; DatasheetVersion: Rev.1.00, Sep-2007; PackageVersion: Oct-2006; PackageReference: PWSF0002ZA-A; Publisher: Altium Limited; PackageDescription: 2-Pin Plastic Small Outline Diode, Flat Leads, Body 0.8 x 1.2 mm (UFP); Code_JEITA: SC-79; ComponentLink1Description: Manufacturer Link; ComponentLink1URL: http://sg.renesas.com/fmwk.jsp?cnt=diode_landing.jsp&fp=/products/discrete/diodes/; ComponentLink2Description: Datasheet; ComponentLink2URL: http://documentation.renesas.com/eng/products/diode/rej03g1588_rkz_kjds.pdf; ComponentLink3Description: Packaging Specification; ComponentLink3URL: http://sg.renesas.com/media/products/common_info/package/pdf/diode/code/pwsf0002za_a.pdf
footprint PWSF0002ZA-A (SOD, 2-Flat Leads, Body 0.8x1.2x0.7mm, Renesas Recommended)
signal-integrity model RKZ24B2KJ
pins: 1 K, 2 A

## RKZ24B2KK
designator D?
Silicon Planar Zener Diode for Surge Absorption and Stabilizer; Published: 12-Feb-2010; DatasheetVersion: Rev.1.00, Mar-2007; PackageVersion: Oct-2006; PackageReference: PUSF0002ZB-A; Publisher: Altium Limited; PackageDescription: 2-Pin Plastic Small Outline Diode, Flat Leads, Body 0.6 x 1.0 mm (SFP); ComponentLink1Description: Manufacturer Link; ComponentLink1URL: http://sg.renesas.com/fmwk.jsp?cnt=diode_landing.jsp&fp=/products/discrete/diodes/; ComponentLink2Description: Datasheet; ComponentLink2URL: http://documentation.renesas.com/eng/products/diode/rej03g1518_rkz_kkds.pdf; ComponentLink3Description: Packaging Specification; ComponentLink3URL: http://sg.renesas.com/media/products/common_info/package/pdf/diode/code/pusf0002zb_a.pdf
footprint PUSF0002ZB-A (SOD, 2-Flat Leads, Body 0.6x1.0x0.55mm, Renesas Recommended)
signal-integrity model RKZ24B2KK
pins: 1 K, 2 A

## RKZ24B2KL
designator D?
Silicon Planar Zener Diode for Surge Absorption and Stabilizer; Published: 12-Feb-2010; DatasheetVersion: Rev.1.00, May-2007; PackageVersion: Oct-2006; PackageReference: PXSF0002ZA-A; Publisher: Altium Limited; PackageDescription: 2-Pin Plastic Small Outline Diode, Flat Leads, Body 0.6 x 0.8 mm (EFP); ComponentLink1Description: Manufacturer Link; ComponentLink1URL: http://sg.renesas.com/fmwk.jsp?cnt=diode_landing.jsp&fp=/products/discrete/diodes/; ComponentLink2Description: Datasheet; ComponentLink2URL: http://documentation.renesas.com/eng/products/diode/rej03g1519_rkz_klds.pdf; ComponentLink3Description: Packaging Specification; ComponentLink3URL: http://sg.renesas.com/media/products/common_info/package/pdf/diode/code/pxsf0002za_a.pdf
footprint PXSF0002ZA-A (SOD, 2-Flat Leads, Body 0.6x0.8x0.5mm, Renesas Recommended)
signal-integrity model RKZ24B2KL
pins: 1 K, 2 A

## RKZ24BKU
designator D?
Silicon Planar Zener Diode for Stabilized Power Supply; Published: 12-Feb-2010; DatasheetVersion: Rev.1.00, Jul-2009; PackageVersion: Jul-2009; PackageReference: PUSF0002ZD-A; Publisher: Altium Limited; PackageDescription: 2-Pin Plastic Small Outline Diode, Flat Leads, Body 1.3 x 1.9 mm (TURP-FM); ComponentLink1Description: Manufacturer Link; ComponentLink1URL: http://sg.renesas.com/fmwk.jsp?cnt=diode_landing.jsp&fp=/products/discrete/diodes/; ComponentLink2Description: Datasheet; ComponentLink2URL: http://documentation.renesas.com/eng/products/diode/rej03g1771_rkz_kuds.pdf; ComponentLink3Description: Packaging Specification; ComponentLink3URL: http://sg.renesas.com/media/products/common_info/package/pdf/diode/code/pusf0002zd_a.pdf
footprint PUSF0002ZD-A (SOD, 2-Flat Leads, Body 1.3x1.9x0.65mm, Renesas Recommended)
signal-integrity model RKZ24BKU
pins: 1 K, 2 A

## RKZ24CKU
designator D?
Silicon Planar Zener Diode for Stabilized Power Supply; Published: 12-Feb-2010; DatasheetVersion: Rev.1.00, Jul-2009; PackageVersion: Jul-2009; PackageReference: PUSF0002ZD-A; Publisher: Altium Limited; PackageDescription: 2-Pin Plastic Small Outline Diode, Flat Leads, Body 1.3 x 1.9 mm (TURP-FM); ComponentLink1Description: Manufacturer Link; ComponentLink1URL: http://sg.renesas.com/fmwk.jsp?cnt=diode_landing.jsp&fp=/products/discrete/diodes/; ComponentLink2Description: Datasheet; ComponentLink2URL: http://documentation.renesas.com/eng/products/diode/rej03g1771_rkz_kuds.pdf; ComponentLink3Description: Packaging Specification; ComponentLink3URL: http://sg.renesas.com/media/products/common_info/package/pdf/diode/code/pusf0002zd_a.pdf
footprint PUSF0002ZD-A (SOD, 2-Flat Leads, Body 1.3x1.9x0.65mm, Renesas Recommended)
signal-integrity model RKZ24CKU
pins: 1 K, 2 A

## RKZ24DKU
designator D?
Silicon Planar Zener Diode for Stabilized Power Supply; Published: 12-Feb-2010; DatasheetVersion: Rev.1.00, Jul-2009; PackageVersion: Jul-2009; PackageReference: PUSF0002ZD-A; Publisher: Altium Limited; PackageDescription: 2-Pin Plastic Small Outline Diode, Flat Leads, Body 1.3 x 1.9 mm (TURP-FM); ComponentLink1Description: Manufacturer Link; ComponentLink1URL: http://sg.renesas.com/fmwk.jsp?cnt=diode_landing.jsp&fp=/products/discrete/diodes/; ComponentLink2Description: Datasheet; ComponentLink2URL: http://documentation.renesas.com/eng/products/diode/rej03g1771_rkz_kuds.pdf; ComponentLink3Description: Packaging Specification; ComponentLink3URL: http://sg.renesas.com/media/products/common_info/package/pdf/diode/code/pusf0002zd_a.pdf
footprint PUSF0002ZD-A (SOD, 2-Flat Leads, Body 1.3x1.9x0.65mm, Renesas Recommended)
signal-integrity model RKZ24DKU
pins: 1 K, 2 A

## RKZ27-1KD
designator D?
Silicon Planar Zener Diode for Stabilized Power Supply; Published: 12-Feb-2010; DatasheetVersion: Rev.2.00, May-2008; PackageVersion: Aug-2005; PackageReference: GLZZ0002ZA-A; Publisher: Altium Limited; PackageDescription: Metal Electrode Face (MELF) Diode; Body 3.5 x 1.35 mm (LxDia); ComponentLink1Description: Manufacturer Link; ComponentLink1URL: http://sg.renesas.com/fmwk.jsp?cnt=diode_landing.jsp&fp=/products/discrete/diodes/; ComponentLink2Description: Datasheet; ComponentLink2URL: http://documentation.renesas.com/eng/products/diode/rej03g1264_rkz_kd.pdf; ComponentLink3Description: Packaging Specification; ComponentLink3URL: http://sg.renesas.com/media/products/common_info/package/pdf/diode/code/glzz0002za_a.pdf
footprint GLZZ0002ZA-A (Metal Electrode Face (MELF) Diode; Body 3.5 x 1.35 mm (LxDia))
signal-integrity model RKZ27-1KD
pins: 1 K, 2 A

## RKZ27-2KD
designator D?
Silicon Planar Zener Diode for Stabilized Power Supply; Published: 12-Feb-2010; DatasheetVersion: Rev.2.00, May-2008; PackageVersion: Aug-2005; PackageReference: GLZZ0002ZA-A; Publisher: Altium Limited; PackageDescription: Metal Electrode Face (MELF) Diode; Body 3.5 x 1.35 mm (LxDia); ComponentLink1Description: Manufacturer Link; ComponentLink1URL: http://sg.renesas.com/fmwk.jsp?cnt=diode_landing.jsp&fp=/products/discrete/diodes/; ComponentLink2Description: Datasheet; ComponentLink2URL: http://documentation.renesas.com/eng/products/diode/rej03g1264_rkz_kd.pdf; ComponentLink3Description: Packaging Specification; ComponentLink3URL: http://sg.renesas.com/media/products/common_info/package/pdf/diode/code/glzz0002za_a.pdf
footprint GLZZ0002ZA-A (Metal Electrode Face (MELF) Diode; Body 3.5 x 1.35 mm (LxDia))
signal-integrity model RKZ27-2KD
pins: 1 K, 2 A

## RKZ27-3KD
designator D?
Silicon Planar Zener Diode for Stabilized Power Supply; Published: 12-Feb-2010; DatasheetVersion: Rev.2.00, May-2008; PackageVersion: Aug-2005; PackageReference: GLZZ0002ZA-A; Publisher: Altium Limited; PackageDescription: Metal Electrode Face (MELF) Diode; Body 3.5 x 1.35 mm (LxDia); ComponentLink1Description: Manufacturer Link; ComponentLink1URL: http://sg.renesas.com/fmwk.jsp?cnt=diode_landing.jsp&fp=/products/discrete/diodes/; ComponentLink2Description: Datasheet; ComponentLink2URL: http://documentation.renesas.com/eng/products/diode/rej03g1264_rkz_kd.pdf; ComponentLink3Description: Packaging Specification; ComponentLink3URL: http://sg.renesas.com/media/products/common_info/package/pdf/diode/code/glzz0002za_a.pdf
footprint GLZZ0002ZA-A (Metal Electrode Face (MELF) Diode; Body 3.5 x 1.35 mm (LxDia))
signal-integrity model RKZ27-3KD
pins: 1 K, 2 A

## RKZ27AKU
designator D?
Silicon Planar Zener Diode for Stabilized Power Supply; Published: 12-Feb-2010; DatasheetVersion: Rev.1.00, Jul-2009; PackageVersion: Jul-2009; PackageReference: PUSF0002ZD-A; Publisher: Altium Limited; PackageDescription: 2-Pin Plastic Small Outline Diode, Flat Leads, Body 1.3 x 1.9 mm (TURP-FM); ComponentLink1Description: Manufacturer Link; ComponentLink1URL: http://sg.renesas.com/fmwk.jsp?cnt=diode_landing.jsp&fp=/products/discrete/diodes/; ComponentLink2Description: Datasheet; ComponentLink2URL: http://documentation.renesas.com/eng/products/diode/rej03g1771_rkz_kuds.pdf; ComponentLink3Description: Packaging Specification; ComponentLink3URL: http://sg.renesas.com/media/products/common_info/package/pdf/diode/code/pusf0002zd_a.pdf
footprint PUSF0002ZD-A (SOD, 2-Flat Leads, Body 1.3x1.9x0.65mm, Renesas Recommended)
signal-integrity model RKZ27AKU
pins: 1 K, 2 A

## RKZ27BKG
designator D?
Silicon Planar Zener Diode for Surge Absorption and Stabilizer; Published: 12-Feb-2010; DatasheetVersion: Rev.3.00, Feb-2009; PackageVersion: Sep-2005; PackageReference: PTSP0002ZA-A; Publisher: Altium Limited; PackageDescription: 2-Pin SC-76 Package, 1.7 x 1.3 mm Body; Code_JEITA: SC-76A; ComponentLink1Description: Manufacturer Link; ComponentLink1URL: http://sg.renesas.com/fmwk.jsp?cnt=diode_landing.jsp&fp=/products/discrete/diodes/; ComponentLink2Description: Datasheet; ComponentLink2URL: http://documentation.renesas.com/eng/products/diode/rej03g1512_rkz_kg.pdf; ComponentLink3Description: Packaging Specification; ComponentLink3URL: http://sg.renesas.com/media/products/common_info/package/pdf/diode/code/ptsp0002za_a.pdf
footprint PTSP0002ZA-A (SC-76; 2 Leads; Body 1.7x1.3mm, Renesas Recommended)
signal-integrity model RKZ27BKG
pins: 1 K, 2 A

## RKZ27BKJ
designator D?
Silicon Planar Zener Diode for Surge Absorption and Stabilizer; Published: 12-Feb-2010; DatasheetVersion: Rev.1.00, Sep-2007; PackageVersion: Oct-2006; PackageReference: PWSF0002ZA-A; Publisher: Altium Limited; PackageDescription: 2-Pin Plastic Small Outline Diode, Flat Leads, Body 0.8 x 1.2 mm (UFP); Code_JEITA: SC-79; ComponentLink1Description: Manufacturer Link; ComponentLink1URL: http://sg.renesas.com/fmwk.jsp?cnt=diode_landing.jsp&fp=/products/discrete/diodes/; ComponentLink2Description: Datasheet; ComponentLink2URL: http://documentation.renesas.com/eng/products/diode/rej03g1588_rkz_kjds.pdf; ComponentLink3Description: Packaging Specification; ComponentLink3URL: http://sg.renesas.com/media/products/common_info/package/pdf/diode/code/pwsf0002za_a.pdf
footprint PWSF0002ZA-A (SOD, 2-Flat Leads, Body 0.8x1.2x0.7mm, Renesas Recommended)
signal-integrity model RKZ27BKJ
pins: 1 K, 2 A

## RKZ27BKK
designator D?
Silicon Planar Zener Diode for Surge Absorption and Stabilizer; Published: 12-Feb-2010; DatasheetVersion: Rev.1.00, Mar-2007; PackageVersion: Oct-2006; PackageReference: PUSF0002ZB-A; Publisher: Altium Limited; PackageDescription: 2-Pin Plastic Small Outline Diode, Flat Leads, Body 0.6 x 1.0 mm (SFP); ComponentLink1Description: Manufacturer Link; ComponentLink1URL: http://sg.renesas.com/fmwk.jsp?cnt=diode_landing.jsp&fp=/products/discrete/diodes/; ComponentLink2Description: Datasheet; ComponentLink2URL: http://documentation.renesas.com/eng/products/diode/rej03g1518_rkz_kkds.pdf; ComponentLink3Description: Packaging Specification; ComponentLink3URL: http://sg.renesas.com/media/products/common_info/package/pdf/diode/code/pusf0002zb_a.pdf
footprint PUSF0002ZB-A (SOD, 2-Flat Leads, Body 0.6x1.0x0.55mm, Renesas Recommended)
signal-integrity model RKZ27BKK
pins: 1 K, 2 A